# EAGLE library part TBD62003AFNG (library TBD62003AFNG)
Power Switch/Driver 1:1 N-Channel 300mA 16-SOP Source: Datasheet <https://toshiba.semicon-storage.com/info/docget.jsp?did=29886&prodName=TBD62003AFNG>
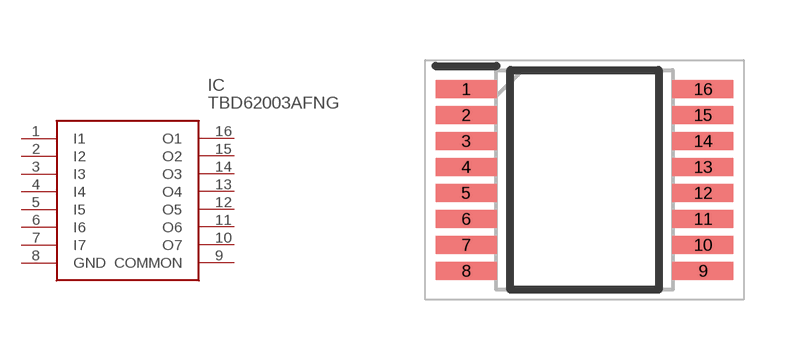
[diagram p0: symbol with the pads of SOP65P640X160-16N; footprint SOP65P640X160-16N]

Designator prefix IC

## TBD62003AFNG (Description: Power Switch/Driver 1:1 N-Channel 300mA 16-SOP; Height: 1.6mm; Manufacturer_Name: Toshiba; Manufacturer_Part_Number: TBD62003AFNG; Mouser_Part_Number: N/A; Mouser_Price-Stock: https://www.mouser.co.uk/ProductDetail/Toshiba/TBD62003AFNG?qs=By6Nw2ByBD2S7CAJp1Mq6Q%3D%3D)  [SOP65P640X160-16N]
1  I1
2  I2
3  I3
4  I4
5  I5
6  I6
7  I7
8  GND
9  COMMON
10  O7
11  O6
12  O5
13  O4
14  O3
15  O2
16  O1

## Footprint SOP65P640X160-16N (pad centres in mm)
SSOP16-P-225-0.65B
smd 1.525 x 0.45: 1 -2.962,2.275; 2 -2.962,1.625; 3 -2.962,0.975; 4 -2.962,0.325; 5 -2.962,-0.325; 6 -2.962,-0.975; 7 -2.962,-1.625; 8 -2.962,-2.275; 9 2.962,-2.275; 10 2.962,-1.625; 11 2.962,-0.975; 12 2.962,-0.325; 13 2.962,0.325; 14 2.962,0.975; 15 2.962,1.625; 16 2.962,2.275